# Altium schematic symbol library LMV324AILQ对射-20260911.SCHLIB: 41 symbols
Pins are listed as number, name and electrical type; pins without a type are passive.

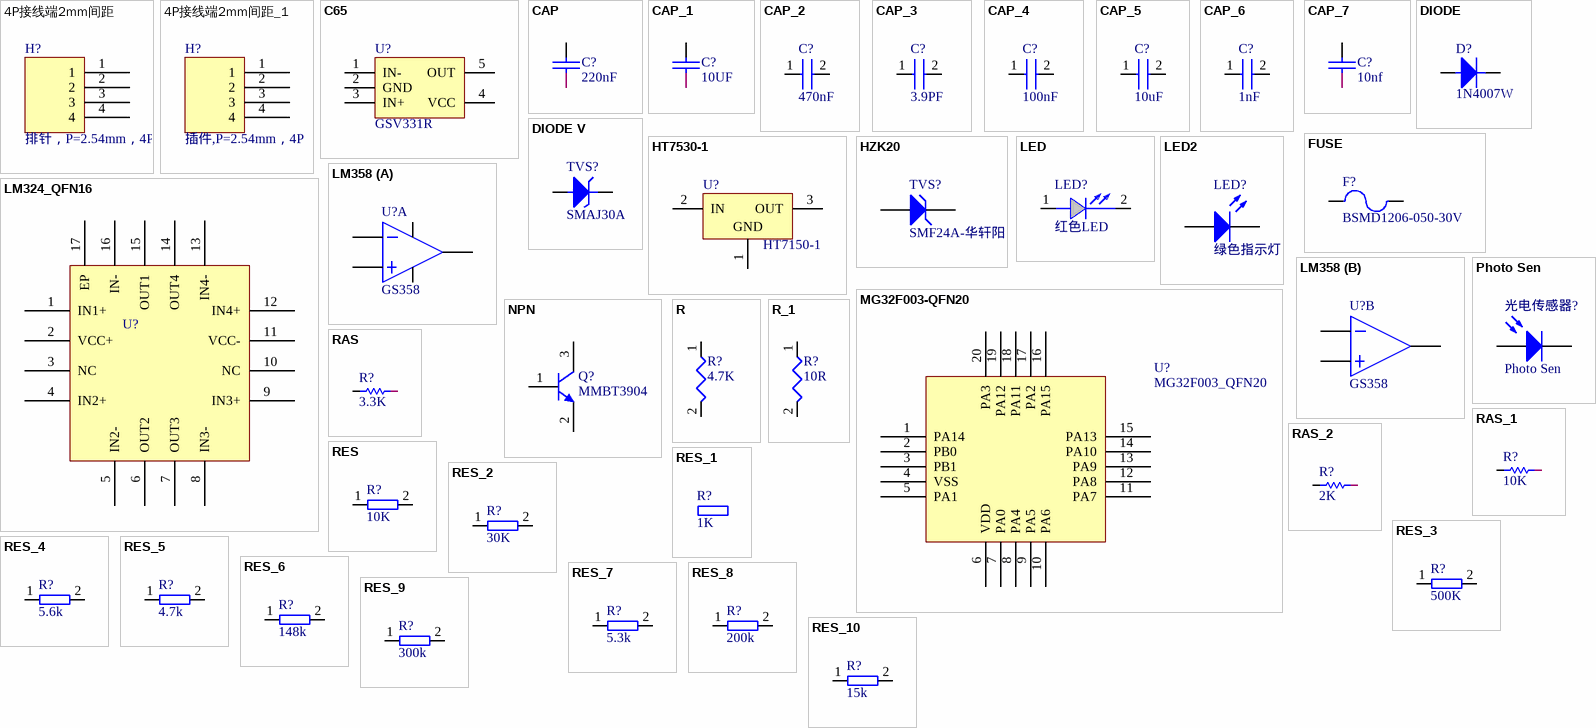
[diagram p0: symbols 4P接线端2mm间距 to RES_10]

## 4P接线端2mm间距
designator H?, comment 排针，P=2.54mm，4P
footprint Pin HDR1X4/2.54mm-S
pins: 1, 2, 3, 4

## 4P接线端2mm间距_1
designator H?, comment 插件,P=2.54mm，4P
footprint Pin HDR1X4/2.54mm-S
pins: 1, 2, 3, 4

## C65
designator U?, comment GSV331R
footprint SC70
pins: 1 IN-, 2 GND, 3 IN+, 4 VCC, 5 OUT

## CAP
designator C?, comment 220nF
Capacitor
footprint 0603A
pins: 1, 2

## CAP_1
designator C?, comment 10UF
Capacitor
footprint 0603A
pins: 1, 2

## CAP_2
designator C?, comment 470nF
pins: 1, 2
2 alternate drawings of the same symbol

## CAP_3
designator C?, comment 3.9PF
pins: 1, 2
2 alternate drawings of the same symbol

## CAP_4
designator C?, comment 100nF
pins: 1, 2
2 alternate drawings of the same symbol

## CAP_5
designator C?, comment 10uF
pins: 1, 2
2 alternate drawings of the same symbol

## CAP_6
designator C?, comment 1nF
pins: 1, 2
2 alternate drawings of the same symbol

## CAP_7
designator C?, comment 10nf
陶瓷电容
footprint 0603A
pins: 1, 2

## DIODE
designator D?, comment 1N4007W
Diode
footprint D1
pins: 1 A, 2 K

## DIODE V
designator TVS?, comment SMAJ30A
Varactor Diode
footprint D2
pins: 1, 2

## FUSE
designator F?, comment BSMD1206-050-30V
Fuse
footprint 1206
pins: 1, 2

## HT7530-1
designator U?, comment HT7150-1
3.0V 100mA Low Power,  Low Dropout Voltage (LDO) Regulator; Published: 30-Mar-2007; DatasheetVersion: rev1.50, Jan-2006; PackageVersion: Jan-2006; PackageReference: SOT-89; Publisher: Altium Limited; PackageDescription: 3-Pin SOT-89 Package 1.5 mm Pitch, 4.1 mm Lead Span; Code_IPC: SOT89; ComponentLink1Description: Manufacturer Link; ComponentLink1URL: http://www.holtek.com/; ComponentLink2Description: Datasheet; ComponentLink2URL: http://www.holtek.com/pdf/consumer/75xx_1v150.pdf
footprint SOT89N (SOT89, 3-Leads, Body 4.5x2.4 mm, Pitch 1.5mm, Lead Span 4.1mm, IPC Medium Density)
footprint SOT89L (SOT89, 3-Leads, Body 4.5x2.4 mm, Pitch 1.5mm, Lead Span 4.1mm, IPC High Density)
footprint SOT89M (SOT89, 3-Leads, Body 4.5x2.4 mm, Pitch 1.5mm, Lead Span 4.1mm, IPC Low Density)
pins: 1 GND (power), 2 IN (power), 3 OUT (power)

## HZK20
designator TVS?, comment SMF24A-华轩阳
Silicon Epitaxial Planar Zener Diodes for Stabilized Power Supply; Published: 12-Feb-2010; DatasheetVersion: Rev.3.00, May-2003; PackageVersion: Aug-2005; PackageReference: GLZZ0002ZA-A; Publisher: Altium Limited; PackageDescription: Metal Electrode Face (MELF) Diode; Body 3.5 x 1.35 mm (LxDia); ComponentLink1Description: Manufacturer Link; ComponentLink1URL: http://sg.renesas.com/fmwk.jsp?cnt=diode_landing.jsp&fp=/products/discrete/diodes/; ComponentLink2Description: Datasheet; ComponentLink2URL: http://documentation.renesas.com/eng/products/diode/rej03g0018_hzk.pdf; ComponentLink3Description: Packaging Specification; ComponentLink3URL: http://sg.renesas.com/media/products/common_info/package/pdf/diode/code/glzz0002za_a.pdf
footprint GLZZ0002ZA-A (Metal Electrode Face (MELF) Diode; Body 3.5 x 1.35 mm (LxDia))
signal-integrity model HZK20
pins: 1 K, 2 A

## LED
designator LED?, comment 红色LED
Text Field1: 40; Text Field2: 20
footprint 0603V
pins: 1 ANODE, 2 CATHODE
2 alternate drawings of the same symbol

## LED2
designator LED?, comment 绿色指示灯
Typical RED, GREEN, YELLOW, AMBER GaAs LED; Published: 8-Jun-2000; LatestRevisionDate: 17-Jul-2002; LatestRevisionNote: Re-released for DXP Platform.; PackageVersion: Feb-2002; PackageReference: 3.2X1.6X1.1; Publisher: Altium Limited; PackageDescription: SM LED; 2 Flat Leads
footprint 3.2X1.6X1.1 (SMT LED; 2 Flat Leads)
simulation model LED2 (Diode)
pins: 1 A, 2 K

## LM324_QFN16
designator U?
pins: 1 IN1+, 2 VCC+, 3 NC, 4 IN2+, 5 IN2-, 6 OUT2, 7 OUT3, 8 IN3-, 9 IN3+, 10 NC, 11 VCC-, 12 IN4+, 13 IN4-, 14 OUT4, 15 OUT1, 16 IN-, 17 EP

## LM358
designator U?, comment GS358
footprint SOP-8
part A pins: 1, 2, 3, 4, 8
part B pins: 5, 6, 7
2 alternate drawings of the same symbol

## MG32F003-QFN20
designator U?, comment MG32F003_QFN20
QFN20主控芯片
footprint HT3.96-11P
pins: 1 PA14, 2 PB0, 3 PB1, 4 VSS, 5 PA1, 6 VDD, 7 PA0, 8 PA4, 9 PA5, 10 PA6, 11 PA7, 12 PA8, 13 PA9, 14 PA10, 15 PA13, 16 PA15, 17 PA2, 18 PA11, 19 PA12, 20 PA3

## NPN
designator Q?, comment MMBT3904
NPN Bipolar Transistor; Published: 8-Jun-2000; LatestRevisionDate: 17-Jul-2002; LatestRevisionNote: Re-released for DXP Platform.; PackageReference: TO-226-AA; Publisher: Altium Limited; PackageDescription: TO, Flat Index; 3 In-Line, Axial Leads; Body Dia. 4.8mm; Leads 0.55 x 0.51 mm (max); Code_JEDEC: TO-226-AA
footprint TO-226-AA (TO, Flat Index; 3 In-Line, Axial Leads; Body Dia. 4.8mm; Leads 0.55 x 0.51 mm (max))
simulation model NPN
signal-integrity model NPN
pins: 1 B, 2 E, 3 C

## Photo Sen
designator 光电传感器?
Photosensitive Diode; Published: 24-Mar-1999; LatestRevisionDate: 17-Jul-2002; LatestRevisionNote: Re-released for DXP Platform.; PackageReference: PIN2; Publisher: Altium Limited
footprint PIN2 (Photosensitive Diode; 2 Leads)
pins: 1 A, 2 K

## R
designator R?, comment 4.7K
Text Field1: 20; Text Field2: 30
footprint 0402
pins: 1, 2
2 alternate drawings of the same symbol

## R_1
designator R?, comment 10R
Text Field1: 20; Text Field2: 30
footprint 0402
pins: 1, 2
2 alternate drawings of the same symbol

## RAS
designator R?, comment 3.3K
footprint 0603
pins: 1, 2

## RAS_1
designator R?, comment 10K
footprint 0603
pins: 1, 2

## RAS_2
designator R?, comment 2K
footprint 0603
pins: 1, 2

## RES
designator R?, comment 10K
pins: 1, 2
2 alternate drawings of the same symbol

## RES_1
designator R?, comment 1K
pins: 1 hidden, 2 hidden
2 alternate drawings of the same symbol

## RES_2
designator R?, comment 30K
pins: 1, 2
2 alternate drawings of the same symbol

## RES_3
designator R?, comment 500K
pins: 1, 2
2 alternate drawings of the same symbol

## RES_4
designator R?, comment 5.6k
pins: 1, 2
2 alternate drawings of the same symbol

## RES_5
designator R?, comment 4.7k
pins: 1, 2
2 alternate drawings of the same symbol

## RES_6
designator R?, comment 148k
pins: 1, 2
2 alternate drawings of the same symbol

## RES_7
designator R?, comment 5.3k
pins: 1, 2
2 alternate drawings of the same symbol

## RES_8
designator R?, comment 200k
pins: 1, 2
2 alternate drawings of the same symbol

## RES_9
designator R?, comment 300k
pins: 1, 2
2 alternate drawings of the same symbol

## RES_10
designator R?, comment 15k
pins: 1, 2
2 alternate drawings of the same symbol

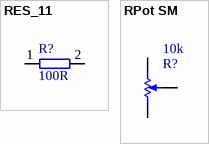
[diagram p1: symbols RES_11 to RPot SM]

## RES_11
designator R?, comment 100R
pins: 1, 2
2 alternate drawings of the same symbol

## RPot SM
designator R?, comment 10k
Square Trimming Potentiometer; Published: 17-Dec-2003; DatasheetVersion: Oct-2003; PackageReference: POT4MM-2; Publisher: Altium Limited; PackageDescription: Square Trimming Potentiometer; ComponentLink1Description: Manufacturer Link; ComponentLink1URL: http://bourns.com/2/search.html
footprint POT4MM-2 (Square Trimming Potentiometer)
pins: CCW -, CW +, W
1 alternate drawing of the same symbol